# Altium schematic symbol library MIC94092YC6.Schlib: 1 symbol
Pins are listed as number, name and electrical type; pins without a type are passive.

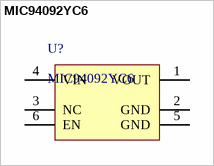
[diagram p0: symbol MIC94092YC6]

## MIC94092YC6
designator U?
IC PWR SWITCH P-CHAN 1:1 SC70-6
pins: 1 VOUT, 2 GND, 3 NC, 4 VIN, 5 GND, 6 EN